# EAGLE library part JP_TDK_LAMBDA_5_+-12_125MA (library JoshParts)
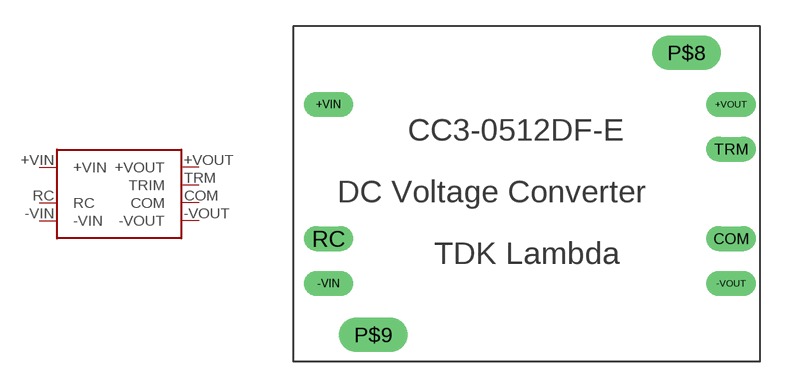
[diagram p0: symbol with the pads of JOSHPARTS_TDK_LAMBDA_5_TO_BI_12_125MA; footprint JOSHPARTS_TDK_LAMBDA_5_TO_BI_12_125MA]

Designator prefix IC

## JP_TDK_LAMBDA_5_+-12_125MA  [JOSHPARTS_TDK_LAMBDA_5_TO_BI_12_125MA]
+VIN  +VIN
+VOUT  +VOUT
-VIN  -VIN
-VOUT  -VOUT
COM  COM
RC  RC
TRM  TRIM

## Footprint JOSHPARTS_TDK_LAMBDA_5_TO_BI_12_125MA (pad centres in mm)
drill 0.9 long: +VIN 0,-2.92; +VOUT 22.86,-2.92; -VIN 0,-13.08; -VOUT 22.86,-13.08; COM 22.86,-10.54; RC 0,-10.54; TRM 22.86,-5.46
drill 1.3 long: P$8 20.32,0; P$9 2.54,-16